# Altium footprint library Pressure_Footprint.PcbLib: 2 footprints
Each footprint in its own frame and in the unit in brackets; x right, y up, seen from the top. Pads: shape width x height; smd on the part's side, far side on the other; paste and mask are expansions set on the pad; w line width, h text height; cw(c..) or ccw(c..) is an arc to the next point about the centre after c.
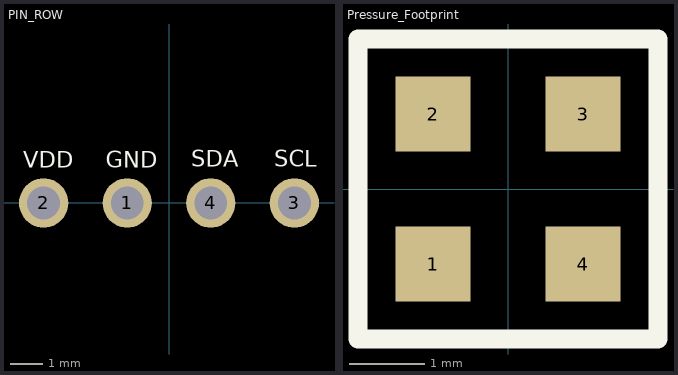
[diagram p0: the footprints below, top view; thin cyan lines are the x and y axes]

## PIN_ROW [mm]
pads (4):
  round 1.5 hole 1: 1(-1.27,0) 2(-3.81,0) 3(3.81,0) 4(1.27,0)
Top Overlay:
  text "VDD" at -4.425,1.075 h0.5
  text "SCL" at 3.2,1.1 h0.5
  text "SDA" at 0.675,1.1 h0.5
  text "GND" at -1.925,1.075 h0.5

## Pressure_Footprint [mm]
pads (4):
  rect 1x1 smd: 1(-1,-1) 2(-1,1) 3(1,1) 4(1,-1)
Top Overlay:
  lines w0.254: -2,-2 -2,-1.5 -2,2 2,2 2,-2 -2,-2